# Altium schematic symbol library BridgeDiode.SchLib: 1 symbol
Pins are listed as number, name and electrical type; pins without a type are passive.

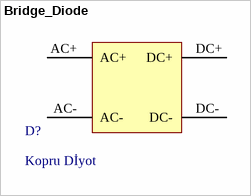
[diagram p0: symbol Bridge_Diode]

## Bridge_Diode
designator D?, comment Kopru Dİyot
pins: AC+, AC-, DC+, DC-